# Altium footprint library ESP32C3WROOM02N4.PcbLib: 1 footprints
Each footprint in its own frame and in the unit in brackets; x right, y up, seen from the top. Pads: shape width x height; smd on the part's side, far side on the other; paste and mask are expansions set on the pad; w line width, h text height; cw(c..) or ccw(c..) is an arc to the next point about the centre after c.
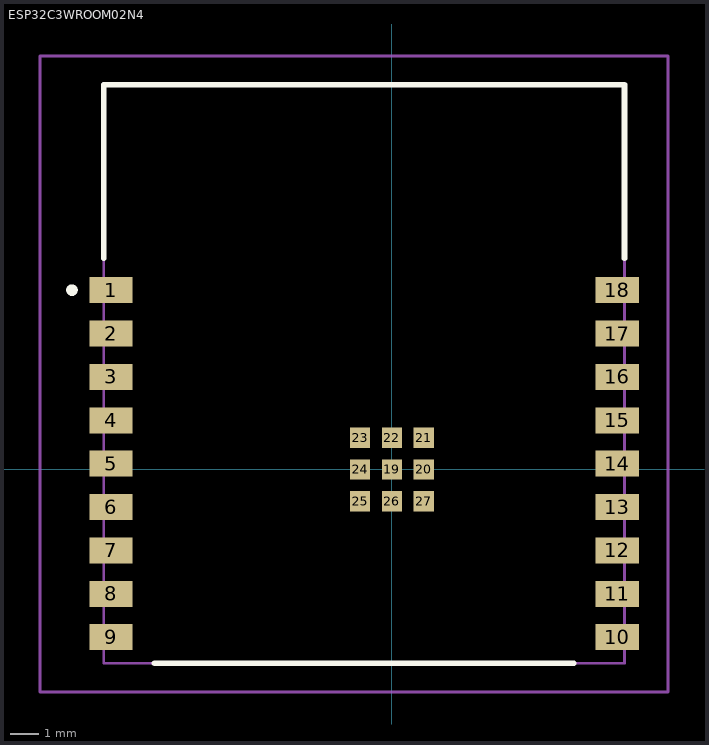
[diagram p0: the footprint, top view; thin cyan lines are the x and y axes]

## ESP32C3WROOM02N4 [mm]
pads (27):
  rect 1.5x0.9 smd: 1(-9.71,6.2) 2(-9.71,4.7) 3(-9.71,3.2) 4(-9.71,1.7) 5(-9.71,0.2) 6(-9.71,-1.3) 7(-9.71,-2.8) 8(-9.71,-4.3) 9(-9.71,-5.8) 10(7.79,-5.8) 11(7.79,-4.3) 12(7.79,-2.8) 13(7.79,-1.3) 14(7.79,0.2) 15(7.79,1.7) 16(7.79,3.2) 17(7.79,4.7) 18(7.79,6.2)
  rect 0.7x0.7 smd: 19(0,0) 20(1.1,0) 21(1.1,1.1) 22(0,1.1) 23(-1.1,1.1) 24(-1.1,0) 25(-1.1,-1.1) 26(0,-1.1) 27(1.1,-1.1)
Top Overlay:
  lines w0.2: -11.16,6.2 ccw(c-11.06,6.2) -10.96,6.2 ; -11.16,6.2 cw(c-11.06,6.2) -10.96,6.2 ; -11.16,6.2 ccw(c-11.06,6.2) -10.96,6.2 ; -9.96,13.3 -9.96,7.3 -9.96,13.3 ; -9.96,13.3 8.04,13.3 ; -9.96,13.3 8.04,13.3 ; 8.04,13.3 8.04,7.3 8.04,13.3 ; -8.21,-6.7 6.29,-6.7 -8.21,-6.7
Mechanical 15:
  lines w0.1: -9.96,-6.7 -9.96,13.3 8.04,13.3 8.04,-6.7 -9.96,-6.7
Mechanical 20:
  lines w0.1: -12.16,-7.7 -12.16,14.3 9.54,14.3 9.54,-7.7 -12.16,-7.7
3D body "ESP32-C3-WROOM-02-N4.stp": height 1.6, standoff -1.6, extent -10.143,-6.731 7.857,13.269